# Altium footprint library PcbLib1.PcbLib: 40 footprints (part 1 of 3)
Each footprint in its own frame and in the unit in brackets; x right, y up, seen from the top. Pads: shape width x height; smd on the part's side, far side on the other; paste and mask are expansions set on the pad; w line width, h text height; cw(c..) or ccw(c..) is an arc to the next point about the centre after c.
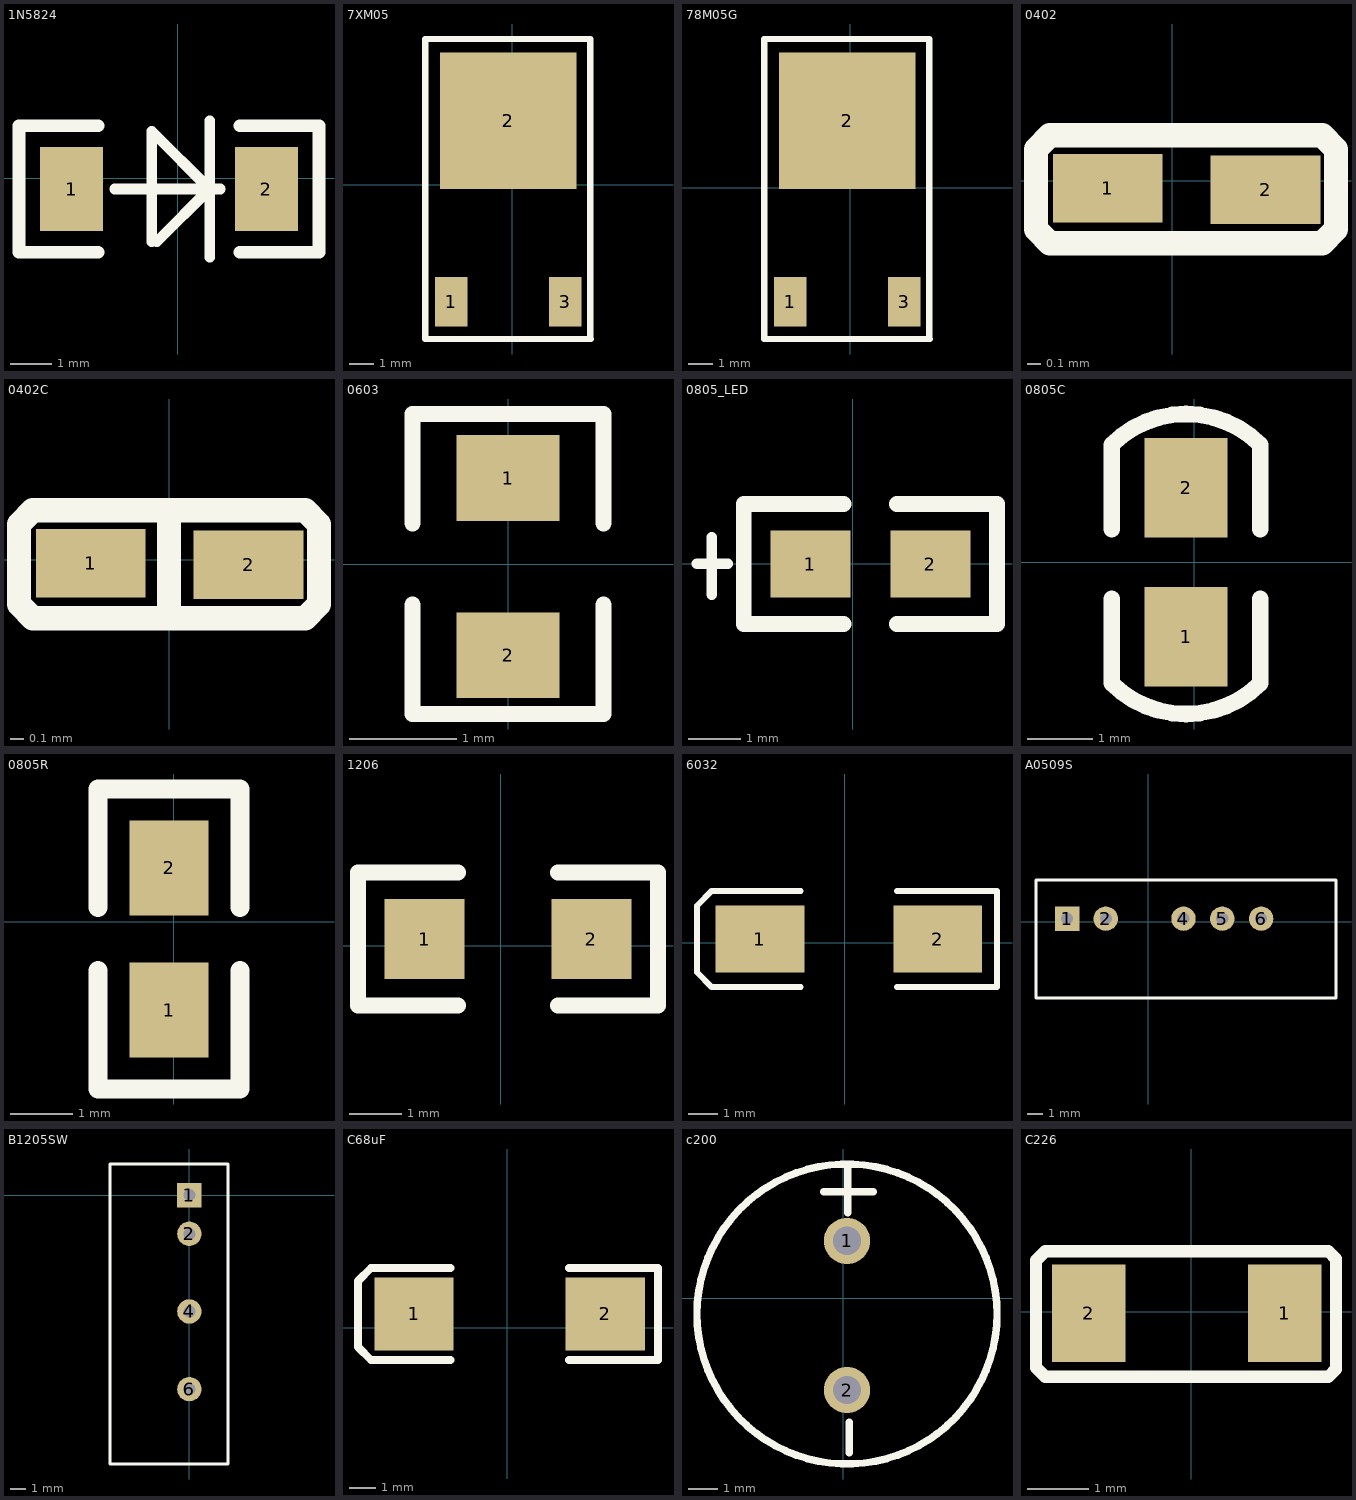
[diagram p0: the footprints below, top view; thin cyan lines are the x and y axes]

## 1N5824 [mil]
pads (2):
  rect 60x80 smd: 1(-101,-10) 2(84,-10)
Top Overlay:
  lines w10: -60,-10 40,-10 ; -25,-60 -25,45 30,-10 -20,-60 ; 30,-75 30,55
  lines w12: -76,-70 -151,-70 -151,50 -76,50 ; 59,-70 134,-70 134,50 59,50
Bottom Overlay:
  lines w10: -25,-60 -20,-60 ; 25,-10 30,-10

## 7XM05 [mm]
pads (3):
  rect 1.3x2 smd: 1(-2.455,-4.723) 3(2.145,-4.723)
  rect 5.5x5.5 smd: 2(-0.155,2.577)
Top Overlay:
  lines w0.254: -3.505,-6.223 -3.505,5.867 3.15,5.867 3.15,-6.198 3.175,-6.223 -3.505,-6.223

## 78M05G [mm]
pads (3):
  rect 1.3x2 smd: 1(-2.43,-4.596) 3(2.17,-4.596)
  rect 5.5x5.5 smd: 2(-0.13,2.704)
Top Overlay:
  lines w0.254: -3.48,-6.096 3.2,-6.096 3.175,-6.071 3.175,5.994 -3.48,5.994 -3.48,-6.096

## 0402 [mm]
pads (2):
  rect 0.8x0.5 smd: 1(-0.468,-0.056) 2(0.682,-0.066)
Top Overlay:
  lines w0.178: -0.991,-0.356 -0.991,0.229 -0.889,0.33 1.092,0.33 1.194,0.229 1.194,-0.356 1.092,-0.457 -0.889,-0.457 -0.991,-0.356

## 0402C [mm]
pads (2):
  rect 0.8x0.5 smd: 1(-0.57,-0.025) 2(0.58,-0.035)
Top Overlay:
  lines w0.178: -0.01,-0.426 0,-0.416 0,0.361 ; -1.092,-0.325 -1.092,0.259 -0.991,0.361 0.991,0.361 1.092,0.259 1.092,-0.325 0.991,-0.426 -0.991,-0.426 -1.092,-0.325

## 0603 [mm]
pads (2):
  rect 0.96x0.8 smd: 1(0,0.8) 2(0,-0.85)
Top Overlay:
  lines w0.152: -0.889,-0.381 -0.889,-1.397 0.889,-1.397 0.889,-0.381 ; -0.889,0.381 -0.889,0.635 -0.889,1.143 -0.889,1.397 0.889,1.397 0.889,1.143 0.889,0.635 0.889,0.381

## 0805_LED [mil]
pads (2):
  rect 60x50 smd: 1(-31.93,-0.36) 2(58.08,-0.36)
Top Overlay:
  lines w8: -117,-0.24 -94,-0.24 ; -106,-23.24 -106,19.76
  lines w12: -6.92,-45.36 -81.92,-45.36 -81.92,44.64 -6.92,44.64 ; 33.08,-45.36 108.08,-45.36 108.08,44.64 33.08,44.64

## 0805C [mil]
pads (2):
  rect 50x60 smd: 1(-4.94,-45.08) 2(-4.94,44.92)
Top Overlay:
  lines w10: -49.94,-22.08 -49.94,-73.08 ccw(c-4.94,-28.08) 40.06,-73.08 40.06,-22.08 ; -49.94,19.92 -49.94,70.92 cw(c-4.94,25.92) 40.06,70.92 40.06,19.92

## 0805R [mil]
pads (2):
  rect 50x60 smd: 1(-3.02,-56.08) 2(-3.02,33.92)
Top Overlay:
  lines w12: -48.02,-31.08 -48.02,-106.08 41.98,-106.08 41.98,-31.08 ; -48.02,8.92 -48.02,83.92 41.98,83.92 41.98,8.92

## 1206 [mil]
pads (2):
  rect 60x60 smd: 1(-57,5) 2(68,5)
Top Overlay:
  lines w12: -32,-45 -107,-45 -107,55 -32,55 ; 43,-45 118,-45 118,55 43,55

## 6032 [mil]
pads (2):
  rect 120x90 smd: 1(-114.58,5.36) 2(125.42,5.36)
Top Overlay:
  lines w7.87: -59.58,-59.64 -179.57,-59.64 -199.57,-39.64 -199.57,50.36 -179.57,70.36 -59.58,70.36 ; 70.42,-59.64 205.43,-59.64 205.43,70.36 70.42,70.36

## A0509S [mm]
pads (5):
  rect 1.6x1.6 hole 0.8: 1(-5.309,0.203)
  round 1.6 hole 0.8: 2(-2.769,0.203) 4(2.311,0.203) 5(4.851,0.203) 6(7.391,0.203)
Top Overlay:
  lines w0.2: -7.341,2.743 12.291,2.727
  lines w0.203: -7.341,2.743 -7.341,-5.004 12.291,-5.004 12.291,2.727

## B1205SW [mm]
pads (4):
  rect 1.6x1.6 hole 0.8: 1(0,0)
  round 1.6 hole 0.8: 2(0,-2.54) 4(0,-7.62) 6(0,-12.7)
Top Overlay:
  lines w0.2: 2.524,-17.6 2.54,2.032
  lines w0.203: 2.524,-17.6 -5.207,-17.6 -5.207,2.032 2.54,2.032

## C68uF [mil]
pads (2):
  rect 120x110.24 smd: 1(-141,21) 2(149,21)
Top Overlay:
  lines w12: -86,-49 -206,-49 -226,-29 -226,71 -206,91 -86,91 ; 94,-49 229,-49 229,91 94,91

## c200 [mil]
pads (2):
  round 62 hole 38: 1(5,77) 2(5,-123)
Top Overlay:
  circle w10: c5,-21 r201.12
  lines w10: -26,143 40,143 ; 6,115 6,173 ; 8,-207 8,-166

## C226 [mm]
pads (2):
  rect 1.2x1.6 smd: 1(1.524,-0.025) 2(-1.676,-0.025)
Top Overlay:
  lines w0.203: 1.397,-1.067 2.235,-1.067 2.362,-0.94 2.362,0.864 2.235,0.991 -2.388,0.991 -2.54,0.838 -2.54,-0.914 -2.388,-1.067 1.753,-1.067